# EAGLE library part USB-6S (library usbxlater)
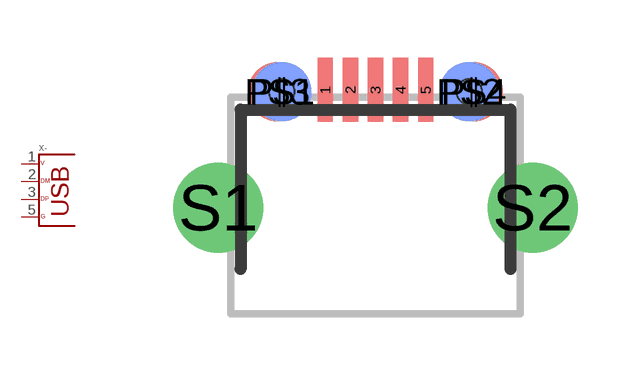
[diagram p2: symbol with the pads of USB_MICRO_B; footprint USB_MICRO_B]

Designator prefix X; gates -=USB G$2=POINT G$3=POINT G$4=POINT G$5=POINT G$6=POINT G$7=POINT

## USB-6S-MICRO_B  [USB_MICRO_B]
1  -:VBUS
2  -:D-
3  -:D+
5  -:GND
P$1  G$4:P$1
P$2  G$5:P$1
P$3  G$6:P$1
P$4  G$7:P$1
S1  G$2:P$1
S2  G$3:P$1

## Footprint USB_MICRO_B (pad centres in mm)
smd 0.4 x 1.651: 1 -1.3,3.048; 2 -0.65,3.048; 3 0,3.048; 4 0.65,3.048; 5 1.3,3.048
smd 1.524 x 1.524 bottom: P$1 -2.425,3; P$2 2.425,3
smd 1.524 x 1.524: P$3 -2.54,3; P$4 2.54,3
drill 1.55: S1 -4.064,0; S2 4.064,0
hole 0.65 at -2.425,3
hole 0.65 at 2.425,3